# EAGLE library part LAN8720 (library caffeine)
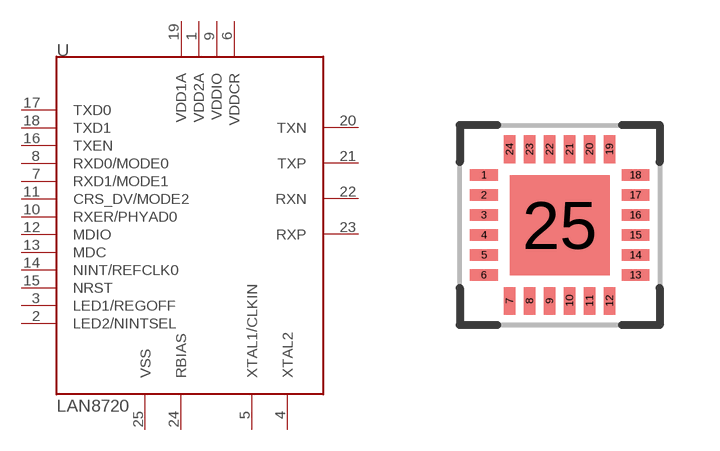
[diagram p2: symbol with the pads of 24QFN-G; footprint 24QFN-G]

Designator prefix -

## LAN8720  [24QFN-G]
1  VDD2A  pwr
2  LED2/NINTSEL
3  LED1/REGOFF
4  XTAL2
5  XTAL1/CLKIN
6  VDDCR  pwr
7  RXD1/MODE1
8  RXD0/MODE0
9  VDDIO  pwr
10  RXER/PHYAD0
11  CRS_DV/MODE2
12  MDIO
13  MDC
14  NINT/REFCLK0
15  NRST
16  TXEN
17  TXD0
18  TXD1
19  VDD1A  pwr
20  TXN
21  TXP
22  RXN
23  RXP
24  RBIAS
25  VSS  pwr

## Footprint 24QFN-G (pad centres in mm)
smd 0.69 x 0.28: 1 -1.895,1.25; 2 -1.895,0.75; 3 -1.895,0.25; 4 -1.895,-0.25; 5 -1.895,-0.75; 6 -1.895,-1.25; 13 1.895,-1.25; 14 1.895,-0.75; 15 1.895,-0.25; 16 1.895,0.25; 17 1.895,0.75; 18 1.895,1.25
smd 0.28 x 0.69: 7 -1.25,-1.895; 8 -0.75,-1.895; 9 -0.25,-1.895; 10 0.25,-1.895; 11 0.75,-1.895; 12 1.25,-1.895; 19 1.25,1.895; 20 0.75,1.895; 21 0.25,1.895; 22 -0.25,1.895; 23 -0.75,1.895; 24 -1.25,1.895
smd 2.5 x 2.5: 25 0,0